# EAGLE library part TXB0106 (library heck)
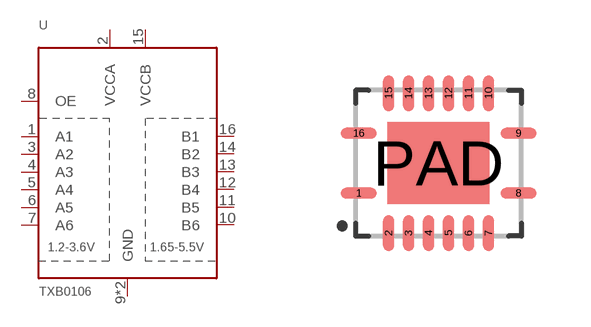
[diagram p23: symbol with the pads of HVQFN16; footprint HVQFN16]

Designator prefix U

## TXB0106RGY  [HVQFN16]
1  A1
2  VCCA
3  A2
4  A3
5  A4
6  A5
7  A6
8  OE
9  GND
10  B6
11  B5
12  B4
13  B3
14  B2
15  VCCB
16  B1
PAD  GND

## Footprint HVQFN16 (pad centres in mm)
smd 0.9 x 0.28: 1 -2,-0.75; 8 2,-0.75; 9 2,0.75; 16 -2,0.75
smd 0.28 x 0.9: 2 -1.25,-1.75; 3 -0.75,-1.75; 4 -0.25,-1.75; 5 0.25,-1.75; 6 0.75,-1.75; 7 1.25,-1.75; 10 1.25,1.75; 11 0.75,1.75; 12 0.25,1.75; 13 -0.25,1.75; 14 -0.75,1.75; 15 -1.25,1.75
smd 2.55 x 2.05: PAD 0,0